# Altium integrated library CRCW060344K2FKEA.IntLib: 1 symbol
Pins are listed as number, name and electrical type; pins without a type are passive.

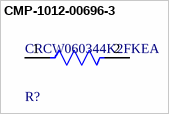
[diagram p0: symbol CMP-1012-00696-3]

## CMP-1012-00696-3
designator R?, comment CRCW060344K2FKEA
RES Thick Film, 44.2kΩ, 1%, 0.1W, 100ppm/°C, 0603; Resistance: 44.2kR; Voltage Rating: 75V; Max Power Dissipation: 100mW; Height: 0.45mm; Min Operating Temperature: -55°C; Contact Plating: Tin; Termination: SMD/SMT; Temperature Coefficient: 100ppm/°C; Case Code (Imperial): 0603; Max Operating Temperature: 155°C; Features: Automotive AEC-Q200; Power Rating: 100mW; Weight: 7.1E-05oz; Composition: Thick Film; Radiation Hardening: No; Length: 1.55mm; Lead Free: Lead Free; Case/Package: 0603; Depth: 0.85mm; Tolerance: 1%; Package Quantity: 10; Packaging: Tape and Reel; Case Code (Metric): 1608; Number of Terminations: 2; Voltage Rating (DC): 75V; Military Standard: Not; Width: 0.85mm
footprint FP-CRCW0603-e3-MFG
footprint FP-CRCW0603-e3-IPC_A
footprint FP-CRCW0603-e3-IPC_B
footprint FP-CRCW0603-e3-IPC_C
pins: 1, 2